# Altium footprint library RH050.PcbLib: 1 footprints
Each footprint in its own frame and in the unit in brackets; x right, y up, seen from the top. Pads: shape width x height; smd on the part's side, far side on the other; paste and mask are expansions set on the pad; w line width, h text height; cw(c..) or ccw(c..) is an arc to the next point about the centre after c.
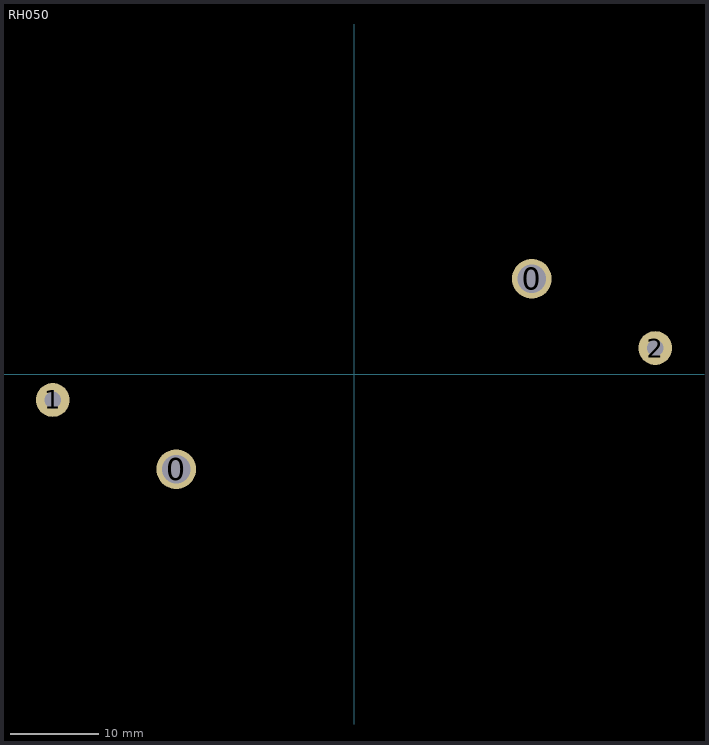
[diagram p0: the footprint, top view; thin cyan lines are the x and y axes]

## RH050 [mil]
pads (4):
  round 175 hole 125: 0(-788,-422) 0(788,422)
  round 150 hole 75: 1(-1335,-115) 2(1335,115)
3D body: height 615, standoff 5, extent -1422,-570 1422,570